# EAGLE library part LTC4085 (library BreakoutBoard)
LTC4085 USB Power Manager with Ideal Diode Controller and Li-Ion Charger Note: LTC4085 has a preset charge voltage of 4.2V, whereas LTC4085-1 has that of 4.1V. Source: http://cds.linear.com/docs/Datasheet/4085fd.pdf
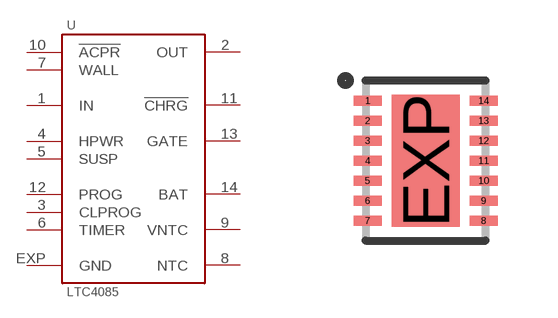
[diagram p8: symbol with the pads of DFN-14; footprint DFN-14]

Designator prefix U

## LTC4085 (DIGI-KEY#: LTC4085EDE#PBF-ND; MF: Linear Technology; MPN: LTC4085EDE#PBF), LTC4085-1 (MF: Linear Technology)  [DFN-14]
1  IN  pwr
2  OUT  pwr
3  CLPROG  in
4  HPWR  in
5  SUSP  in
6  TIMER  in
7  WALL  in
8  NTC  in
9  VNTC  out
10  !ACPR  out
11  !CHRG  out
12  PROG  in
13  GATE  out
14  BAT  pwr
EXP  GND  pwr

## Footprint DFN-14 (pad centres in mm)
DE Package 14-Lead Plastic DFN (4mm × 3mm) Source: http://cds.linear.com/docs/Datasheet/4085fd.pdf
smd 0.7 x 0.25: 1 -1.45,1.5; 2 -1.45,1; 3 -1.45,0.5; 4 -1.45,0; 5 -1.45,-0.5; 6 -1.45,-1; 7 -1.45,-1.5; 8 1.45,-1.5; 9 1.45,-1; 10 1.45,-0.5; 11 1.45,0; 12 1.45,0.5; 13 1.45,1; 14 1.45,1.5
smd 1.7 x 3.3: EXP 0,0